# Altium schematic symbol library Inductors.SchLib: 1 symbol
Pins are listed as number, name and electrical type; pins without a type are passive.

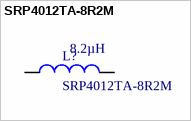
[diagram p0: symbol SRP4012TA-8R2M]

## SRP4012TA-8R2M
designator L?  Inductance: 8.2µH
FIXED IND 8.2UH 1.4A 376 MOHM; Manufacturer: Bourns Inc.; Type: Wirewound; Material - Core: Carbonyl Powder; Tolerance: ±20%; Current - Saturation: 1.6A; Shielding: Shielded; DC Resistance (DCR): 376 mOhm Max; Q @ Freq: 10 @ 100kHz; Frequency - Self Resonant: 25MHz; Frequency - Test: 100kHz; Supplier 1: Digi-Key; Supplier Part Number 1: SRP4012TA-8R2MCT-ND; Manufacturer Part Number: SRP4012TA-8R2M; RoHS: RoHS Compliant; Category: Inductors, Coils, Chokes; Stock 1: 1984; Pricing 1: 1=1.18, 10=1.11, 25=1.036, 50=0.888, 100=0.8436, 250=0.7696, 500=0.6808, 1000=0.6216 (USD); Packaging: Cut Tape (CT); Part Status: Active; Current Rating: 1.4A; Ratings: AEC-Q200; Operating Temperature: -40°C ~ 150°C; Mounting Type: Surface Mount; Package / Case: 2-SMD; Size / Dimension: 0.175" L x 0.160" W (4.45mm x 4.06mm); Height - Seated (Max): 0.047" (1.20mm); ComponentLink1URL: http://www.bourns.com/docs/Product-Datasheets/SRP4012TA.pdf; ComponentLink1Description: http://www.bourns.com/docs/Product-Datasheets/SRP4012TA.pdf
footprint INDP4541X12M (Precision Wire Wound Inductor, 2-Leads, Body 4,45x4,06mm, IPC Low Density)
footprint INDP4541X12N (Precision Wire Wound Inductor, 2-Leads, Body 4,45x4,06mm, IPC Medium Density)
footprint INDP4541X12L (Precision Wire Wound Inductor, 2-Leads, Body 4,45x4,06mm, IPC High Density)
pins: 1, 2